# Altium integrated library NC7SZ86M5.IntLib: 1 symbol
Pins are listed as number, name and electrical type; pins without a type are passive.

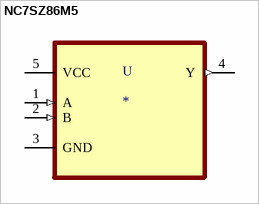
[diagram p0: symbol NC7SZ86M5]

## NC7SZ86M5
designator U
XOR _Exclusive OR_ IC 1 Channel SOT-23-5; MP: NC7SZ86M5; MF: ON Semiconductor; Value: *; Package: SOT-23 ON Semiconductor; Price: None; SnapEDA_Link: https://www.snapeda.com/parts/NC7SZ86M5/ON%20Semiconductor/view-part/2718212/?ref=snap; Availability: Unavailable
footprint SOT95P280X145-5N
pins: 1 A (in), 2 B (in), 3 GND, 4 Y (out), 5 VCC (power)